# Altium footprint library MicRadarR60x.PcbLib: 2 footprints
Each footprint in its own frame and in the unit in brackets; x right, y up, seen from the top. Pads: shape width x height; smd on the part's side, far side on the other; paste and mask are expansions set on the pad; w line width, h text height; cw(c..) or ccw(c..) is an arc to the next point about the centre after c.
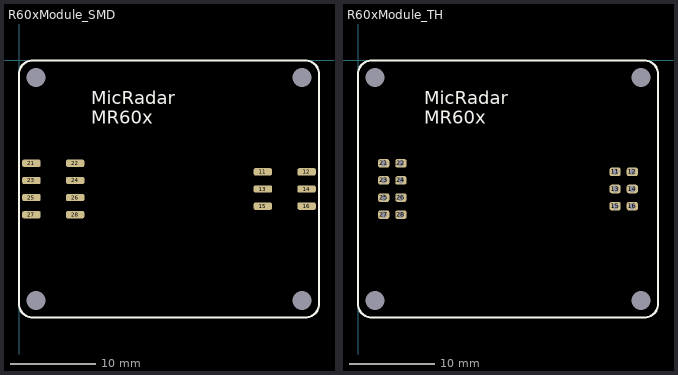
[diagram p0: the footprints below, top view; thin cyan lines are the x and y axes]

## R60xModule_SMD [mm] "MicRadar R60x Smd"
pads (18):
  rrect50% 2.15x0.85 smd: 11(28.45,-13) 12(33.55,-13) 13(28.45,-15) 14(33.55,-15) 15(28.45,-17) 16(33.55,-17) 21(1.45,-12) 22(6.55,-12) 23(1.45,-14) 24(6.55,-14) 25(1.45,-16) 26(6.55,-16) 27(1.45,-18) 28(6.55,-18)
  oval 0x1 hole 2.2 unplated: 19(2,-2) 20(33,-2) 21(2,-28) 22(33,-28)
Top Overlay:
  lines w0.254: 0,-1.6 cw(c1.6,-1.6) 1.6,0 ; 0,-1.5 0,-28.4 ccw(c1.6,-28.4) 1.6,-30 33.4,-30 ccw(c33.4,-28.4) 35,-28.4 35,-1.6 ccw(c33.4,-1.6) 33.4,0 1.5,0
  text "MicRadar / MR60x" at 8.424,-7.4 h1.52
3D body "60G Radar heartbeat-3D.stp": height 8.5, standoff 0, extent 0.1,-30.1 35.1,-0.1

## R60xModule_TH [mm] "MicRadar R60x Trough Hole"
pads (18):
  rrect50% 1.3x1 hole 0.762: 11(30,-13) 12(32,-13) 13(30,-15) 14(32,-15) 15(30,-17) 16(32,-17) 21(3,-12) 22(5,-12) 23(3,-14) 24(5,-14) 25(3,-16) 26(5,-16) 27(3,-18) 28(5,-18)
  oval 0x1 hole 2.2 unplated: 19(2,-2) 20(33,-2) 21(2,-28) 22(33,-28)
Top Overlay:
  lines w0.254: 0,-1.6 cw(c1.6,-1.6) 1.6,0 ; 0,-1.5 0,-28.4 ccw(c1.6,-28.4) 1.6,-30 33.4,-30 ccw(c33.4,-28.4) 35,-28.4 35,-1.6 ccw(c33.4,-1.6) 33.4,0 1.5,0
  text "MicRadar / MR60x" at 7.724,-7.4 h1.52
3D body "60G Radar heartbeat-3D.stp": height 4.71, standoff -3.79, extent 0,-30 35,0